# Altium schematic symbol library CC0805KKX5R8BB106.SchLib: 1 symbol
Pins are listed as number, name and electrical type; pins without a type are passive.

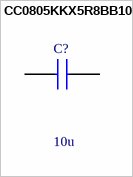
[diagram p0: symbol CC0805KKX5R8BB106]

## CC0805KKX5R8BB106
designator C?, comment 10u
Multilayer Ceramic Capacitors MLCC - SMD/SMT The factory is currently not accepting orders for this product.10 uF,25V; Manufacturer_Name: YAGEO; Manufacturer_Part_Number: CC0805KKX5R8BB106; Geometry.Height: 1.45mm; Mouser Part Number: 603-CC805KKX5R8BB106; Mouser Price/Stock: https://www.mouser.co.uk/ProductDetail/YAGEO/CC0805KKX5R8BB106?qs=57cj7OiSijm89pM64t1AGQ%3D%3D; Arrow Part Number: CC0805KKX5R8BB106; Arrow Price/Stock: https://www.arrow.com/en/products/cc0805kkx5r8bb106/yageo?utm_currency=USD&region=nac; Datasheet Link: https://www.yageo.com/upload/media/product/productsearch/datasheet/mlcc/UPY-GPHC_X5R_4V-to-50V_27.pdf
footprint CAPC2012X145N
pins: 1, 2